# EAGLE library part DRV8835 (library hw6library_Ian)
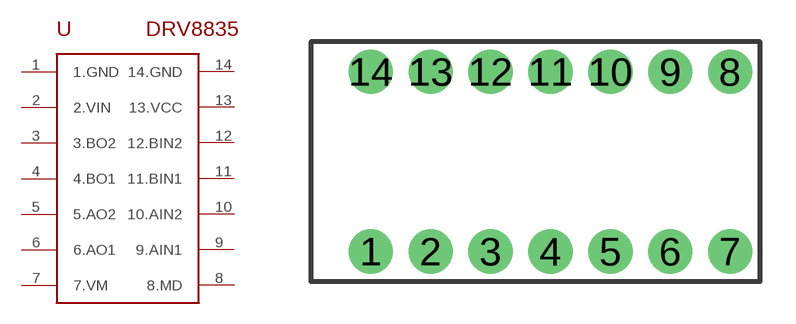
[diagram p9: symbol with the pads of DRV8835; footprint DRV8835]

Designator prefix -

## DRV8835  [DRV8835]
1  1.GND
2  2.VIN
3  3.BO2
4  4.BO1
5  5.AO2
6  6.AO1
7  7.VM
8  8.MD
9  9.AIN1
10  10.AIN2
11  11.BIN1
12  12.BIN2
13  13.VCC
14  14.GND

## Footprint DRV8835 (pad centres in mm)
drill 1.016 pad 1.88: 1 -7.62,-3.81; 2 -5.08,-3.81; 3 -2.54,-3.81; 4 0,-3.81; 5 2.54,-3.81; 6 5.08,-3.81; 7 7.62,-3.81; 8 7.62,3.81; 9 5.08,3.81; 10 2.54,3.81; 11 0,3.81; 12 -2.54,3.81; 13 -5.08,3.81; 14 -7.62,3.81